# Altium integrated library BUK98150-55A_CUF.IntLib: 1 symbol
Pins are listed as number, name and electrical type; pins without a type are passive.

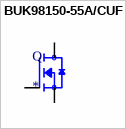
[diagram p0: symbol BUK98150-55A/CUF]

## BUK98150-55A/CUF
designator Q
N-Channel 55V 5.5A _Tc_ 8W _Tc_ Surface Mount SOT-223; MP: BUK98150-55A/CUF; MF: Nexperia USA; Availability: Unavailable; SnapEDA_Link: https://www.snapeda.com/parts/BUK98150-55A/CUF/Nexperia%20USA%20Inc./view-part/2783744/?ref=snap; DigiKey-Purchase-URL: https://snapeda.com/shop?store=DigiKey&id=2783744; Value: *; Price: None; Package: TO-261-4 Nexperia USA
footprint SOT230P700X180-4N
pins: 1 G, 2 D, 3 S, 4 D